# Altium schematic symbol library Schematic Library.SchLib: 41 symbols
Pins are listed as number, name and electrical type; pins without a type are passive.

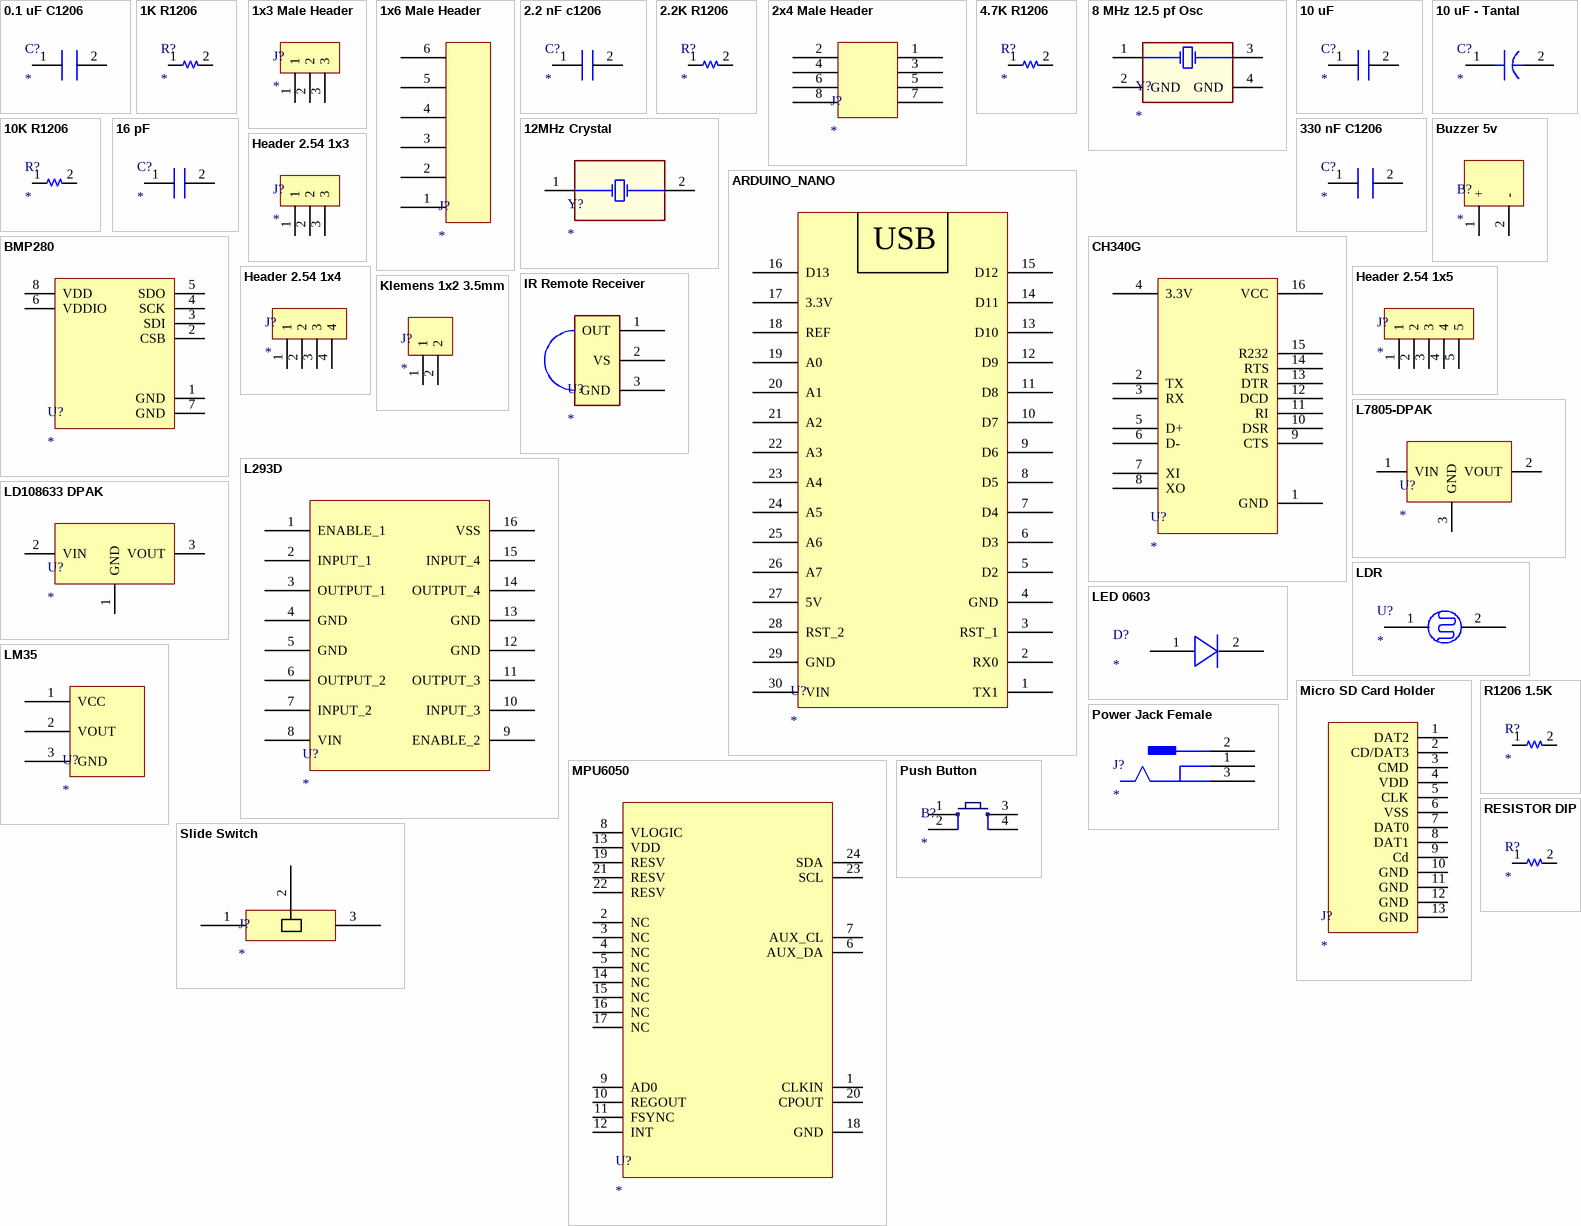
[diagram p0: symbols 0.1 uF C1206 to Slide Switch]

## 0.1 uF C1206
designator C?
0.1 uF C1206
footprint C1206
pins: 1, 2

## 1K R1206
designator R?
1K R1206
footprint R1206 Resıstor
pins: 1, 2

## 1x3 Male Header
designator J?
footprint 1x3 Male Header
pins: 1, 2, 3

## 1x6 Male Header
designator J?
footprint 1x6 MALE HEADER
pins: 1, 2, 3, 4, 5, 6

## 2.2 nF c1206
designator C?
2.2 nF c1206
footprint C1206
pins: 1, 2

## 2.2K R1206
designator R?
2.2K R1206
footprint R1206 Resıstor
pins: 1, 2

## 2x4 Male Header
designator J?
footprint 2x4 Male header
pins: 1, 2, 3, 4, 5, 6, 7, 8

## 4.7K R1206
designator R?
4.7K R1206
footprint R1206 Resıstor
pins: 1, 2

## 8 MHz 12.5 pf Osc
designator Y?
8 MHz 12.5 pf Osc
footprint 8 MHZ Osc.
pins: 1 (power) "Regulator Input Supply. Bypass IN to GND with a 1 uF or greater capacitor.", 2 GND (power) "Ground.", 3 "Enable Input. Drive EN high to turn on the regulator; drive it low to turn off the regulator. For automatic startup, connect EN to IN.", 4 GND "Connect a 1 nF or greater capacitor (10 nF is recommended) between BYP and GND to reduce the internal reference noise for low noise applications."

## 10 uF
designator C?
10 uF
footprint C1206
pins: 1, 2

## 10 uF - Tantal
designator C?
10 uF - Tantal
footprint C1206- TANTAL
pins: 1, 2

## 10K R1206
designator R?
10K R1206
footprint R1206 Resıstor
pins: 1, 2

## 12MHz Crystal
designator Y?
footprint 12MHz Crystal
pins: 1 (power) "Regulator Input Supply. Bypass IN to GND with a 1 uF or greater capacitor.", 2 (power) "Ground."

## 16 pF
designator C?
16 pF
footprint C1206
pins: 1, 2

## 330 nF C1206
designator C?
330 nF C1206
footprint C1206
pins: 1, 2

## ARDUINO_NANO
designator U?
footprint ARDUINO_NANO
pins: 1 TX1, 2 RX0, 3 RST_1, 4 GND, 5 D2, 6 D3, 7 D4, 8 D5, 9 D6, 10 D7, 11 D8, 12 D9, 13 D10, 14 D11, 15 D12, 16 D13, 17 3.3V, 18 REF, 19 A0, 20 A1, 21 A2, 22 A3, 23 A4, 24 A5, 25 A6, 26 A7, 27 5V, 28 RST_2, 29 GND, 30 VIN
text: USB

## BMP280
designator U?
BMP280 SENSOR
footprint BMP280
pins: 1 GND, 2 CSB, 3 SDI, 4 SCK, 5 SDO, 6 VDDIO, 7 GND, 8 VDD

## Buzzer 5v
designator B?
Buzzer 5v
footprint Buzzer 5v
pins: 1 +, 2 -

## CH340G
designator U?
footprint CH340G
pins: 1 GND, 2 TX, 3 RX, 4 3.3V, 5 D+, 6 D-, 7 XI, 8 XO, 9 CTS, 10 DSR, 11 RI, 12 DCD, 13 DTR, 14 RTS, 15 R232, 16 VCC

## Header 2.54 1x3
designator J?
Header 2.54 1x3
footprint Header 2.54 1x3 Female
pins: 1, 2, 3

## Header 2.54 1x4
designator J?
Header 2.54 1x4
footprint Header 2.54 1x4 Female
pins: 1, 2, 3, 4

## Header 2.54 1x5
designator J?
Header 2.54 1x5
footprint Header 2.54 1x5 Female
pins: 1, 2, 3, 4, 5

## IR Remote Receiver
designator U?
footprint IR Remote Receiver
pins: 1 OUT, 2 VS, 3 GND

## Klemens 1x2 3.5mm
designator J?
Klemens 1x2 3.5mm
footprint Klemens 1x2 - 3.5mm
pins: 1, 2

## L293D
designator U?
L293D Motor Driver
footprint L293D (L293D Motor Driver)
pins: 1 ENABLE_1, 2 INPUT_1, 3 OUTPUT_1, 4 GND, 5 GND, 6 OUTPUT_2, 7 INPUT_2, 8 VIN, 9 ENABLE_2, 10 INPUT_3, 11 OUTPUT_3, 12 GND, 13 GND, 14 OUTPUT_4, 15 INPUT_4, 16 VSS

## L7805-DPAK
designator U?
L7805 5V REGULATOR. SMD PAKET
footprint DPAK228P972X230-3N (D-PAK, 3-Pads, Body 6,40x6,56mm (max), IPC Medium Density)
pins: 1 VIN, 2 VOUT, 3 GND

## LD108633 DPAK
designator U?
LD1086 3.3V REGULATOR
footprint DPAK228P972X230-3N (D-PAK, 3-Pads, Body 6,40x6,56mm (max), IPC Medium Density)
pins: 1 GND, 2 VIN, 3 VOUT

## LDR
designator U?
footprint LDR
pins: 1, 2

## LED 0603
designator D?
footprint LED 0603
pins: 1, 2

## LM35
designator U?
LM35 Sıcaklık Sensörü
footprint LM35 (LM35 Sıcaklık Sensörü)
pins: 1 VCC, 2 VOUT, 3 GND

## Micro SD Card Holder
designator J?
Micro SD Card Holder
footprint Micro SD Card Holder
pins: 1 DAT2, 2 CD/DAT3, 3 CMD, 4 VDD, 5 CLK, 6 VSS, 7 DAT0, 8 DAT1, 9 Cd, 10 GND, 11 GND, 12 GND, 13 GND

## MPU6050
designator U?
MPU6050 GYRO
footprint QFN50P400X400X90_HS-25N (QFN, 24-Leads, Body 4,00x4,00mm, Pitch 0,50mm, Thermal Pad 2,70x2,60mm, IPC Medium Density)
pins: 1 CLKIN, 2 NC, 3 NC, 4 NC, 5 NC, 6 AUX_DA, 7 AUX_CL, 8 VLOGIC, 9 AD0, 10 REGOUT, 11 FSYNC, 12 INT, 13 VDD, 14 NC, 15 NC, 16 NC, 17 NC, 18 GND, 19 RESV, 20 CPOUT, 21 RESV, 22 RESV, 23 SCL, 24 SDA

## Power Jack Female
designator J?
footprint Power Jack Female
pins: 1, 2 VCC, 3

## Push Button
designator B?
Smd Push Button; Satın Alma Linki: https://urun.n11.com/diger/mini-pushbutton-switch-smd-P227461537?gclid=Cj0KCQjwkoDmBRCcARIsAG3xzl8Y_-jeD7HocNM6lvuZ_rVp83568XPGtNzlPwXWLph8oCRqo0yh87UaApZYEALw_wcB&gclsrc=aw.ds
footprint PUSB BUTTON-SMD
pins: 1, 2, 3, 4

## R1206 1.5K
designator R?
footprint R1206
pins: 1, 2

## RESISTOR DIP
designator R?
Parameter 1: *
footprint RESISTOR DIP
pins: 1, 2

## Slide Switch
designator J?
footprint Slide Switch
pins: 1 VSS, 2 VSS, 3 VSS

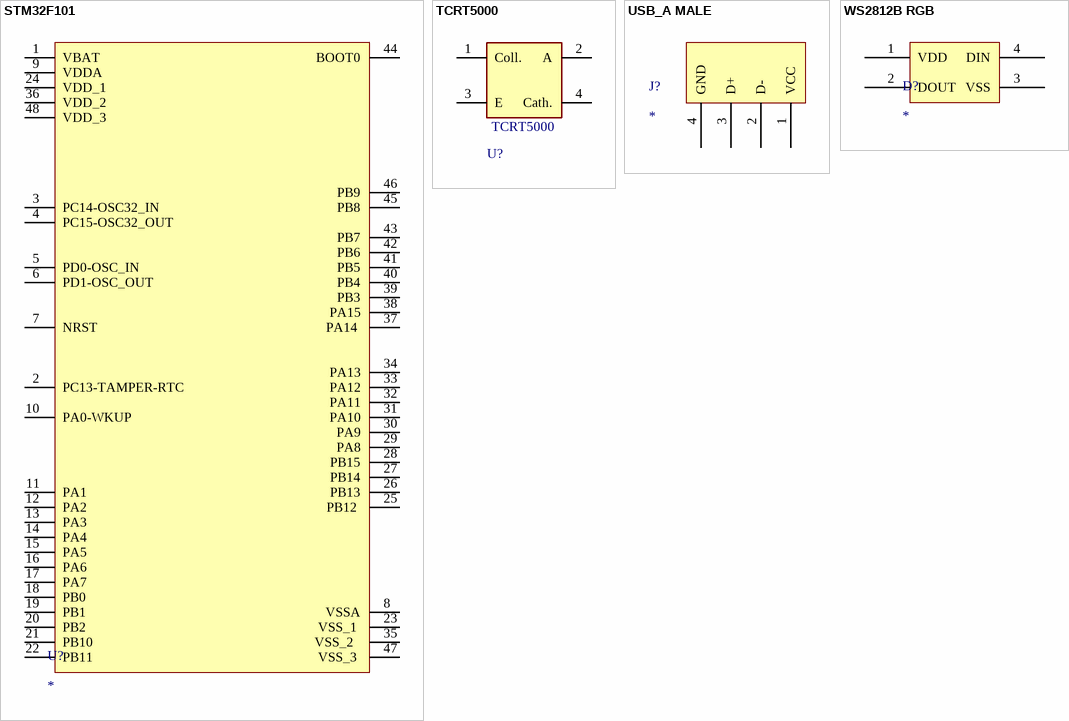
[diagram p1: symbols STM32F101 to WS2812B RGB]

## STM32F101
designator U?
STM32F101 48 PİNLİ MİKROİŞLEMCİ
footprint LQFP48-STM (TSQFP, 48-Leads, Body 7,00x7,00mm, Pitch 0,50mm, IPC Medium Density)
pins: 1 VBAT, 2 PC13-TAMPER-RTC, 3 PC14-OSC32_IN, 4 PC15-OSC32_OUT, 5 PD0-OSC_IN, 6 PD1-OSC_OUT, 7 NRST, 8 VSSA, 9 VDDA, 10 PA0-WKUP, 11 PA1, 12 PA2, 13 PA3, 14 PA4, 15 PA5, 16 PA6, 17 PA7, 18 PB0, 19 PB1, 20 PB2, 21 PB10, 22 PB11, 23 VSS_1 , 24 VDD_1, 25 PB12 , 26 PB13, 27 PB14, 28 PB15, 29 PA8, 30 PA9, 31 PA10, 32 PA11, 33 PA12, 34 PA13, 35 VSS_2  , 36 VDD_2 , 37 PA14 , 38 PA15, 39 PB3, 40 PB4, 41 PB5, 42 PB6, 43 PB7, 44 BOOT0, 45 PB8, 46 PB9, 47 VSS_3 , 48 VDD_3 

## TCRT5000
designator U?  Part Number: TCRT5000
TCRT5000 Kızıl Ötesi Sensör; Manufacturer: Vishay; Current - DC Forward: 60mA; Current - Collector: 100mA; Voltage - Collector Emitter Breakdown: 70V; helpURL: https://upverter.com/upn/revision/6a006743d406fff5/; ComponentLink2Description: Datasheet; Temperature: -25°C to +85°C; Package: PTH_SENSOR_10MM2_5MM8; Supplier 2: Mouser; Price: 0.712554698297; Supplier 1: Digi-Key; ComponentLink1URL: https://upverter.com/upn/revision/6a006743d406fff5/; Supplier Part Number 2: 782-TCRT5000; Supplier Part Number 1: 751-1033-5-ND; ComponentLink1Description: Upverter; ComponentLink2URL: http://www.vishay.com/doc?83760; RoHS: TRUE; Mouser Part Number: 782-TCRT5000; Temperature Range High: +85°C; Digikey Description: IC SENSOR OPTO TRANS 15MM REFL PCB; Digikey Part Number: 751-1033-5-ND; Lead Free: yes; Temperature Range Low: -25°C
footprint TCRT5000 (TCRT5000 Kızıl Ötesi Sensör)
pins: 1 Coll., 2 A, 3 E, 4 Cath.

## USB_A MALE
designator J?
footprint USBA_MALE
pins: 1 VCC, 2 D-, 3 D+, 4 GND

## WS2812B RGB
designator D?
WS2812B RGB LED
footprint WS2812B RGB (WS2812B RGB LED)
pins: 1 VDD, 2 DOUT, 3 VSS, 4 DIN